# Altium schematic symbol library DB9F.Schlib: 1 symbol
Pins are listed as number, name and electrical type; pins without a type are passive.

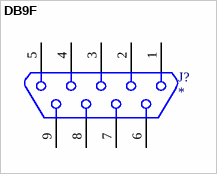
[diagram p0: symbol DB9F]

## DB9F
designator J?
DB9F
pins: 1, 2, 3, 4, 5, 6, 7, 8, 9